# Altium schematic symbol library RHD2000.SCHLIB: 16 symbols
Pins are listed as number, name and electrical type; pins without a type are passive.

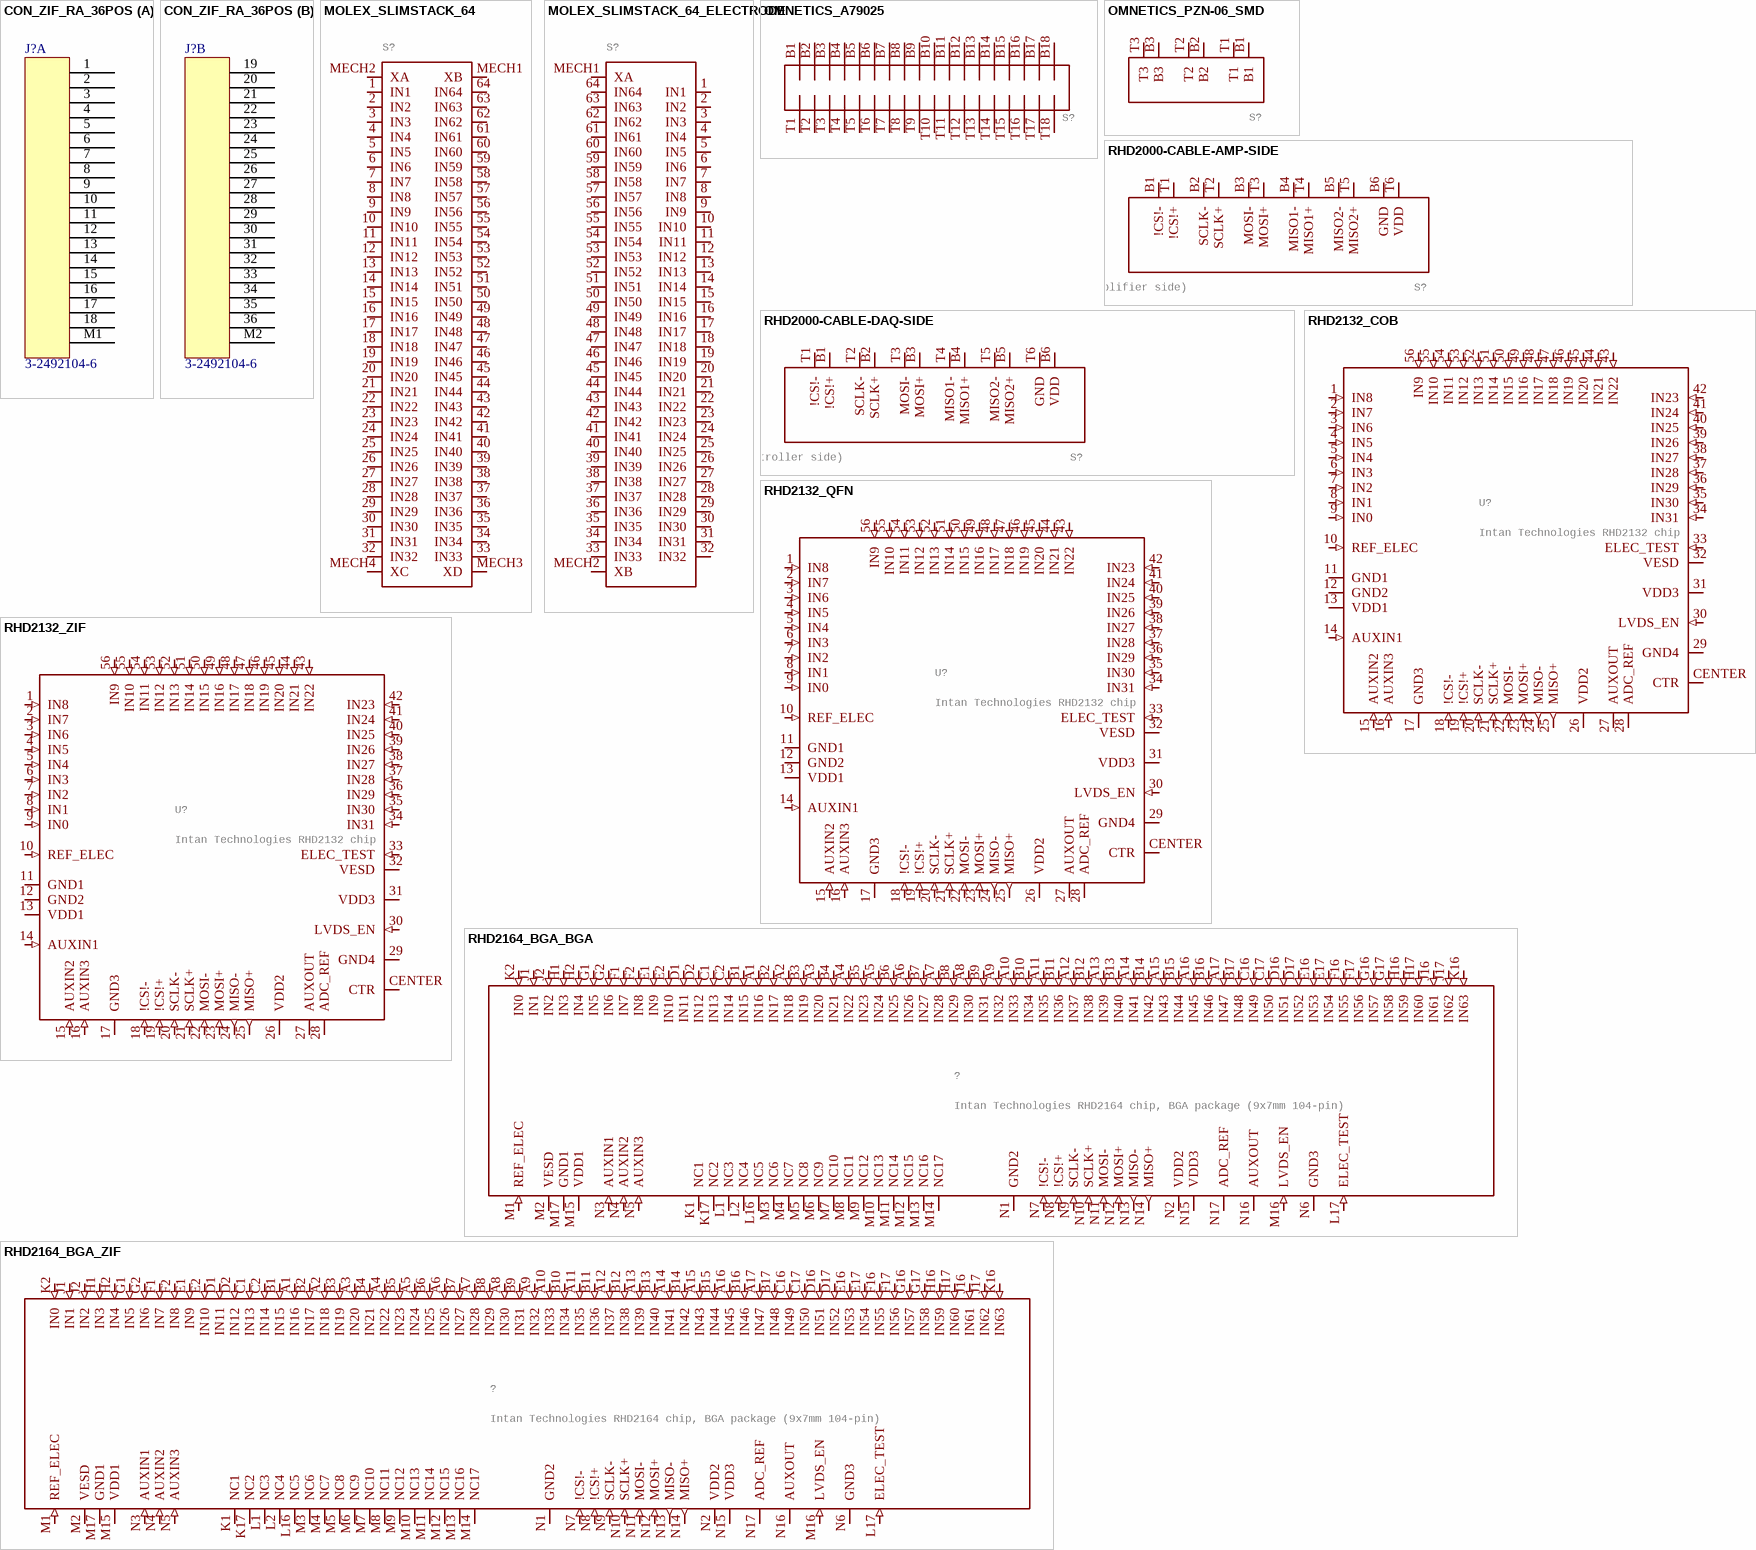
[diagram p0: symbols CON_ZIF_RA_36POS to RHD2164_BGA_ZIF]

## CON_ZIF_RA_36POS
designator J?, comment 3-2492104-6
36 Position FPC Connector Contacts, Bottom 0.020" (0.50mm) Surface Mount, Right Angle; GRAMS Lib Spec: 2.7
footprint CON_ZIF_RA_36POS (3-2492104-6 / 36 Position FPC Connector Contacts, Bottom 0.020" (0.50mm) Surface Mount, Right Angle)
part A pins: 1, 2, 3, 4, 5, 6, 7, 8, 9, 10, 11, 12, 13, 14, 15, 16, 17, 18, M1
part B pins: 19, 20, 21, 22, 23, 24, 25, 26, 27, 28, 29, 30, 31, 32, 33, 34, 35, 36, M2

## MOLEX_SLIMSTACK_64
designator S?, comment Molex 64-pin SlimStack connector (DigiKey WM24076-ND)  (value not drawn)
GateName_1: A; SymbolName_1: MOLEX_SLIMSTACK_64; LibraryName: RHD2000; DeviceSetName: MOLEX_SLIMSTACK_64; Package: MOLEX_SLIMSTACK_64
footprint MOLEX_SLIMSTACK_64
pins: 1 IN1 (io), 2 IN2 (io), 3 IN3 (io), 4 IN4 (io), 5 IN5 (io), 6 IN6 (io), 7 IN7 (io), 8 IN8 (io), 9 IN9 (io), 10 IN10 (io), 11 IN11 (io), 12 IN12 (io), 13 IN13 (io), 14 IN14 (io), 15 IN15 (io), 16 IN16 (io), 17 IN17 (io), 18 IN18 (io), 19 IN19 (io), 20 IN20 (io), 21 IN21 (io), 22 IN22 (io), 23 IN23 (io), 24 IN24 (io), 25 IN25 (io), 26 IN26 (io), 27 IN27 (io), 28 IN28 (io), 29 IN29 (io), 30 IN30 (io), 31 IN31 (io), 32 IN32 (io), 33 IN33 (io), 34 IN34 (io), 35 IN35 (io), 36 IN36 (io), 37 IN37 (io), 38 IN38 (io), 39 IN39 (io), 40 IN40 (io), 41 IN41 (io), 42 IN42 (io), 43 IN43 (io), 44 IN44 (io), 45 IN45 (io), 46 IN46 (io), 47 IN47 (io), 48 IN48 (io), 49 IN49 (io), 50 IN50 (io), 51 IN51 (io), 52 IN52 (io), 53 IN53 (io), 54 IN54 (io), 55 IN55 (io), 56 IN56 (io), 57 IN57 (io), 58 IN58 (io), 59 IN59 (io), 60 IN60 (io), 61 IN61 (io), 62 IN62 (io), 63 IN63 (io), 64 IN64 (io), MECH1 XB, MECH2 XA, MECH3 XD, MECH4 XC

## MOLEX_SLIMSTACK_64_ELECTRODE
designator S?, comment Molex 64-pin SlimStack connector (electrode side) (DigiKey WM24084-ND)  (value not drawn)
GateName_1: A; SymbolName_1: MOLEX_SLIMSTACK_64_ELECTRODE; LibraryName: RHD2000; DeviceSetName: MOLEX_SLIMSTACK_64_ELECTRODE; Package: MOLEX_SLIMSTACK_64_ELECTRODE
footprint MOLEX_SLIMSTACK_64_ELECTRODE
pins: 1 IN1 (io), 2 IN2 (io), 3 IN3 (io), 4 IN4 (io), 5 IN5 (io), 6 IN6 (io), 7 IN7 (io), 8 IN8 (io), 9 IN9 (io), 10 IN10 (io), 11 IN11 (io), 12 IN12 (io), 13 IN13 (io), 14 IN14 (io), 15 IN15 (io), 16 IN16 (io), 17 IN17 (io), 18 IN18 (io), 19 IN19 (io), 20 IN20 (io), 21 IN21 (io), 22 IN22 (io), 23 IN23 (io), 24 IN24 (io), 25 IN25 (io), 26 IN26 (io), 27 IN27 (io), 28 IN28 (io), 29 IN29 (io), 30 IN30 (io), 31 IN31 (io), 32 IN32 (io), 33 IN33 (io), 34 IN34 (io), 35 IN35 (io), 36 IN36 (io), 37 IN37 (io), 38 IN38 (io), 39 IN39 (io), 40 IN40 (io), 41 IN41 (io), 42 IN42 (io), 43 IN43 (io), 44 IN44 (io), 45 IN45 (io), 46 IN46 (io), 47 IN47 (io), 48 IN48 (io), 49 IN49 (io), 50 IN50 (io), 51 IN51 (io), 52 IN52 (io), 53 IN53 (io), 54 IN54 (io), 55 IN55 (io), 56 IN56 (io), 57 IN57 (io), 58 IN58 (io), 59 IN59 (io), 60 IN60 (io), 61 IN61 (io), 62 IN62 (io), 63 IN63 (io), 64 IN64 (io), MECH1 XA, MECH2 XB

## OMNETICS_A79025
designator S?, comment Omnetics A79025 36-pin connector  (value not drawn)
GateName_1: A; SymbolName_1: OMNETICS_A79025; LibraryName: RHD2000; DeviceSetName: OMNETICS_A79025; Package: OMNETICS_A79025
footprint OMNETICS_A79025
pins: B1, B2, B3, B4, B5, B6, B7, B8, B9, B10, B11, B12, B13, B14, B15, B16, B17, B18, T1, T2, T3, T4, T5, T6, T7, T8, T9, T10, T11, T12, T13, T14, T15, T16, T17, T18

## OMNETICS_PZN-06_SMD
designator S?
GateName_1: A; SymbolName_1: OMNETICS_PZN-06; DeviceName: _SMD; LibraryName: RHD2000; DeviceSetName: OMNETICS_PZN-06; Package: OMNETICS_PZN-06-AA
footprint OMNETICS_PZN-06-AA
pins: B1 (io), B2 (io), B3 (io), T1 (io), T2 (io), T3 (io)

## RHD2000-CABLE-AMP-SIDE
designator S?, comment Omnetics A79623 PZN-12-AA connector for SPI interface (amplifier side)
GateName_1: A; SymbolName_1: RHD2000-CABLE; DeviceSetName: RHD2000-CABLE-AMP-SIDE; LibraryName: RHD2000; Package: OMNETICS_PZN-12-AA
footprint OMNETICS_PZN-12-AA
pins: B1 !CS!- (io), B2 SCLK- (io), B3 MOSI- (io), B4 MISO1- (io), B5 MISO2- (io), B6 GND (power), T1 !CS!+ (io), T2 SCLK+ (io), T3 MOSI+ (io), T4 MISO1+ (io), T5 MISO2+ (io), T6 VDD (io)

## RHD2000-CABLE-DAQ-SIDE
designator S?, comment Omnetics A79623 PZN-12-AA connector for SPI interface (controller side)
GateName_1: A; SymbolName_1: RHD2000-CABLE; DeviceSetName: RHD2000-CABLE-DAQ-SIDE; LibraryName: RHD2000; Package: OMNETICS_PZN-12-AA
footprint OMNETICS_PZN-12-AA
pins: B1 !CS!+ (io), B2 SCLK+ (io), B3 MOSI+ (io), B4 MISO1+ (io), B5 MISO2+ (io), B6 VDD (io), T1 !CS!- (io), T2 SCLK- (io), T3 MOSI- (io), T4 MISO1- (io), T5 MISO2- (io), T6 GND (power)

## RHD2132_COB
designator U?, comment Intan Technologies RHD2132 chip
GateName_1: A; DeviceName: _COB; SymbolName_1: RHD2132; LibraryName: RHD2000; DeviceSetName: RHD2132; Package: RHD2000_56PIN_COB
footprint RHD2000_56PIN_COB
pins: 1 IN8 (in), 2 IN7 (in), 3 IN6 (in), 4 IN5 (in), 5 IN4 (in), 6 IN3 (in), 7 IN2 (in), 8 IN1 (in), 9 IN0 (in), 10 REF_ELEC (in), 11 GND1 (power), 12 GND2 (power), 13 VDD1 (power), 14 AUXIN1 (in), 15 AUXIN2 (in), 16 AUXIN3 (in), 17 GND3 (power), 18 !CS!- (in), 19 !CS!+ (in), 20 SCLK- (in), 21 SCLK+ (in), 22 MOSI- (in), 23 MOSI+ (in), 24 MISO- (out), 25 MISO+ (out), 26 VDD2 (power), 27 AUXOUT (hiz), 28 ADC_REF, 29 GND4 (power), 30 LVDS_EN (in), 31 VDD3 (power), 32 VESD (power), 33 ELEC_TEST (in), 34 IN31 (in), 35 IN30 (in), 36 IN29 (in), 37 IN28 (in), 38 IN27 (in), 39 IN26 (in), 40 IN25 (in), 41 IN24 (in), 42 IN23 (in), 43 IN22 (in), 44 IN21 (in), 45 IN20 (in), 46 IN19 (in), 47 IN18 (in), 48 IN17 (in), 49 IN16 (in), 50 IN15 (in), 51 IN14 (in), 52 IN13 (in), 53 IN12 (in), 54 IN11 (in), 55 IN10 (in), 56 IN9 (in), CENTER CTR (power)

## RHD2132_QFN
designator U?, comment Intan Technologies RHD2132 chip
GateName_1: A; DeviceName: _QFN; SymbolName_1: RHD2132; LibraryName: RHD2000; DeviceSetName: RHD2132; Package: QFN56_8_X_8_LARGE
footprint QFN56_8_X_8_LARGE
pins: 1 IN8 (in), 2 IN7 (in), 3 IN6 (in), 4 IN5 (in), 5 IN4 (in), 6 IN3 (in), 7 IN2 (in), 8 IN1 (in), 9 IN0 (in), 10 REF_ELEC (in), 11 GND1 (power), 12 GND2 (power), 13 VDD1 (power), 14 AUXIN1 (in), 15 AUXIN2 (in), 16 AUXIN3 (in), 17 GND3 (power), 18 !CS!- (in), 19 !CS!+ (in), 20 SCLK- (in), 21 SCLK+ (in), 22 MOSI- (in), 23 MOSI+ (in), 24 MISO- (out), 25 MISO+ (out), 26 VDD2 (power), 27 AUXOUT (hiz), 28 ADC_REF, 29 GND4 (power), 30 LVDS_EN (in), 31 VDD3 (power), 32 VESD (power), 33 ELEC_TEST (in), 34 IN31 (in), 35 IN30 (in), 36 IN29 (in), 37 IN28 (in), 38 IN27 (in), 39 IN26 (in), 40 IN25 (in), 41 IN24 (in), 42 IN23 (in), 43 IN22 (in), 44 IN21 (in), 45 IN20 (in), 46 IN19 (in), 47 IN18 (in), 48 IN17 (in), 49 IN16 (in), 50 IN15 (in), 51 IN14 (in), 52 IN13 (in), 53 IN12 (in), 54 IN11 (in), 55 IN10 (in), 56 IN9 (in), CENTER CTR (power)

## RHD2132_ZIF
designator U?, comment Intan Technologies RHD2132 chip
GateName_1: A; DeviceName: _ZIF; SymbolName_1: RHD2132; LibraryName: RHD2000; DeviceSetName: RHD2132; Package: ZIF_QFN56_8_X_8_MLF00056A1
footprint ZIF_QFN56_8_X_8_MLF00056A1
pins: 1 IN8 (in), 2 IN7 (in), 3 IN6 (in), 4 IN5 (in), 5 IN4 (in), 6 IN3 (in), 7 IN2 (in), 8 IN1 (in), 9 IN0 (in), 10 REF_ELEC (in), 11 GND1 (power), 12 GND2 (power), 13 VDD1 (power), 14 AUXIN1 (in), 15 AUXIN2 (in), 16 AUXIN3 (in), 17 GND3 (power), 18 !CS!- (in), 19 !CS!+ (in), 20 SCLK- (in), 21 SCLK+ (in), 22 MOSI- (in), 23 MOSI+ (in), 24 MISO- (out), 25 MISO+ (out), 26 VDD2 (power), 27 AUXOUT (hiz), 28 ADC_REF, 29 GND4 (power), 30 LVDS_EN (in), 31 VDD3 (power), 32 VESD (power), 33 ELEC_TEST (in), 34 IN31 (in), 35 IN30 (in), 36 IN29 (in), 37 IN28 (in), 38 IN27 (in), 39 IN26 (in), 40 IN25 (in), 41 IN24 (in), 42 IN23 (in), 43 IN22 (in), 44 IN21 (in), 45 IN20 (in), 46 IN19 (in), 47 IN18 (in), 48 IN17 (in), 49 IN16 (in), 50 IN15 (in), 51 IN14 (in), 52 IN13 (in), 53 IN12 (in), 54 IN11 (in), 55 IN10 (in), 56 IN9 (in), CENTER CTR (power)

## RHD2164_BGA_BGA
designator ?, comment Intan Technologies RHD2164 chip, BGA package (9x7mm 104-pin)
GateName_1: A; SymbolName_1: RHD2164_BGA; DeviceName: _BGA; LibraryName: RHD2000; DeviceSetName: RHD2164_BGA; Package: BGA104_9X7
footprint RHD2164_BGA
pins: A1 IN16 (in), A2 IN18 (in), A3 IN20 (in), A4 IN22 (in), A5 IN24 (in), A6 IN26 (in), A7 IN28 (in), A8 IN30 (in), A9 IN32 (in), A10 IN33 (in), A11 IN35 (in), A12 IN37 (in), A13 IN39 (in), A14 IN41 (in), A15 IN43 (in), A16 IN45 (in), A17 IN47 (in), B1 IN15 (in), B2 IN17 (in), B3 IN19 (in), B4 IN21 (in), B5 IN23 (in), B6 IN25 (in), B7 IN27 (in), B8 IN29 (in), B9 IN31 (in), B10 IN34 (in), B11 IN36 (in), B12 IN38 (in), B13 IN40 (in), B14 IN42 (in), B15 IN44 (in), B16 IN46 (in), B17 IN48 (in), C1 IN13 (in), C2 IN14 (in), C16 IN49 (in), C17 IN50 (in), D1 IN11 (in), D2 IN12 (in), D16 IN51 (in), D17 IN52 (in), E1 IN9 (in), E2 IN10 (in), E16 IN53 (in), E17 IN54 (in), F1 IN7 (in), F2 IN8 (in), F16 IN55 (in), F17 IN56 (in), G1 IN5 (in), G2 IN6 (in), G16 IN57 (in), G17 IN58 (in), H1 IN3 (in), H2 IN4 (in), H16 IN59 (in), H17 IN60 (in), J1 IN1 (in), J2 IN2 (in), J16 IN61 (in), J17 IN62 (in), K1 NC1, K2 IN0 (in), K16 IN63 (in), K17 NC2, L1 NC3, L2 NC4, L16 NC5, L17 ELEC_TEST (in), M1 REF_ELEC (in), M2 VESD (power), M3 NC6, M4 NC7, M5 NC8, M6 NC9, M7 NC10, M8 NC11, M9 NC12, M10 NC13, M11 NC14, M12 NC15, M13 NC16, M14 NC17, M15 VDD1 (power), M16 LVDS_EN (in), M17 GND1 (power), N1 GND2 (power), N2 VDD2 (power), N3 AUXIN1 (in), N4 AUXIN2 (in), N5 AUXIN3 (in), N6 GND3 (power), N7 !CS!- (in), N8 !CS!+ (in), N9 SCLK- (in), N10 SCLK+ (in), N11 MOSI- (in), N12 MOSI+ (in), N13 MISO- (out), N14 MISO+ (out), N15 VDD3 (power), N16 AUXOUT (hiz), N17 ADC_REF

## RHD2164_BGA_ZIF
designator ?, comment Intan Technologies RHD2164 chip, BGA package (9x7mm 104-pin)
GateName_1: A; SymbolName_1: RHD2164_BGA; DeviceName: _ZIF; LibraryName: RHD2000; DeviceSetName: RHD2164_BGA; Package: BGA104_9X7_ZIF
footprint BGA104_9X7_ZIF
pins: A1 IN16 (in), A2 IN18 (in), A3 IN20 (in), A4 IN22 (in), A5 IN24 (in), A6 IN26 (in), A7 IN28 (in), A8 IN30 (in), A9 IN32 (in), A10 IN33 (in), A11 IN35 (in), A12 IN37 (in), A13 IN39 (in), A14 IN41 (in), A15 IN43 (in), A16 IN45 (in), A17 IN47 (in), B1 IN15 (in), B2 IN17 (in), B3 IN19 (in), B4 IN21 (in), B5 IN23 (in), B6 IN25 (in), B7 IN27 (in), B8 IN29 (in), B9 IN31 (in), B10 IN34 (in), B11 IN36 (in), B12 IN38 (in), B13 IN40 (in), B14 IN42 (in), B15 IN44 (in), B16 IN46 (in), B17 IN48 (in), C1 IN13 (in), C2 IN14 (in), C16 IN49 (in), C17 IN50 (in), D1 IN11 (in), D2 IN12 (in), D16 IN51 (in), D17 IN52 (in), E1 IN9 (in), E2 IN10 (in), E16 IN53 (in), E17 IN54 (in), F1 IN7 (in), F2 IN8 (in), F16 IN55 (in), F17 IN56 (in), G1 IN5 (in), G2 IN6 (in), G16 IN57 (in), G17 IN58 (in), H1 IN3 (in), H2 IN4 (in), H16 IN59 (in), H17 IN60 (in), J1 IN1 (in), J2 IN2 (in), J16 IN61 (in), J17 IN62 (in), K1 NC1, K2 IN0 (in), K16 IN63 (in), K17 NC2, L1 NC3, L2 NC4, L16 NC5, L17 ELEC_TEST (in), M1 REF_ELEC (in), M2 VESD (power), M3 NC6, M4 NC7, M5 NC8, M6 NC9, M7 NC10, M8 NC11, M9 NC12, M10 NC13, M11 NC14, M12 NC15, M13 NC16, M14 NC17, M15 VDD1 (power), M16 LVDS_EN (in), M17 GND1 (power), N1 GND2 (power), N2 VDD2 (power), N3 AUXIN1 (in), N4 AUXIN2 (in), N5 AUXIN3 (in), N6 GND3 (power), N7 !CS!- (in), N8 !CS!+ (in), N9 SCLK- (in), N10 SCLK+ (in), N11 MOSI- (in), N12 MOSI+ (in), N13 MISO- (out), N14 MISO+ (out), N15 VDD3 (power), N16 AUXOUT (hiz), N17 ADC_REF

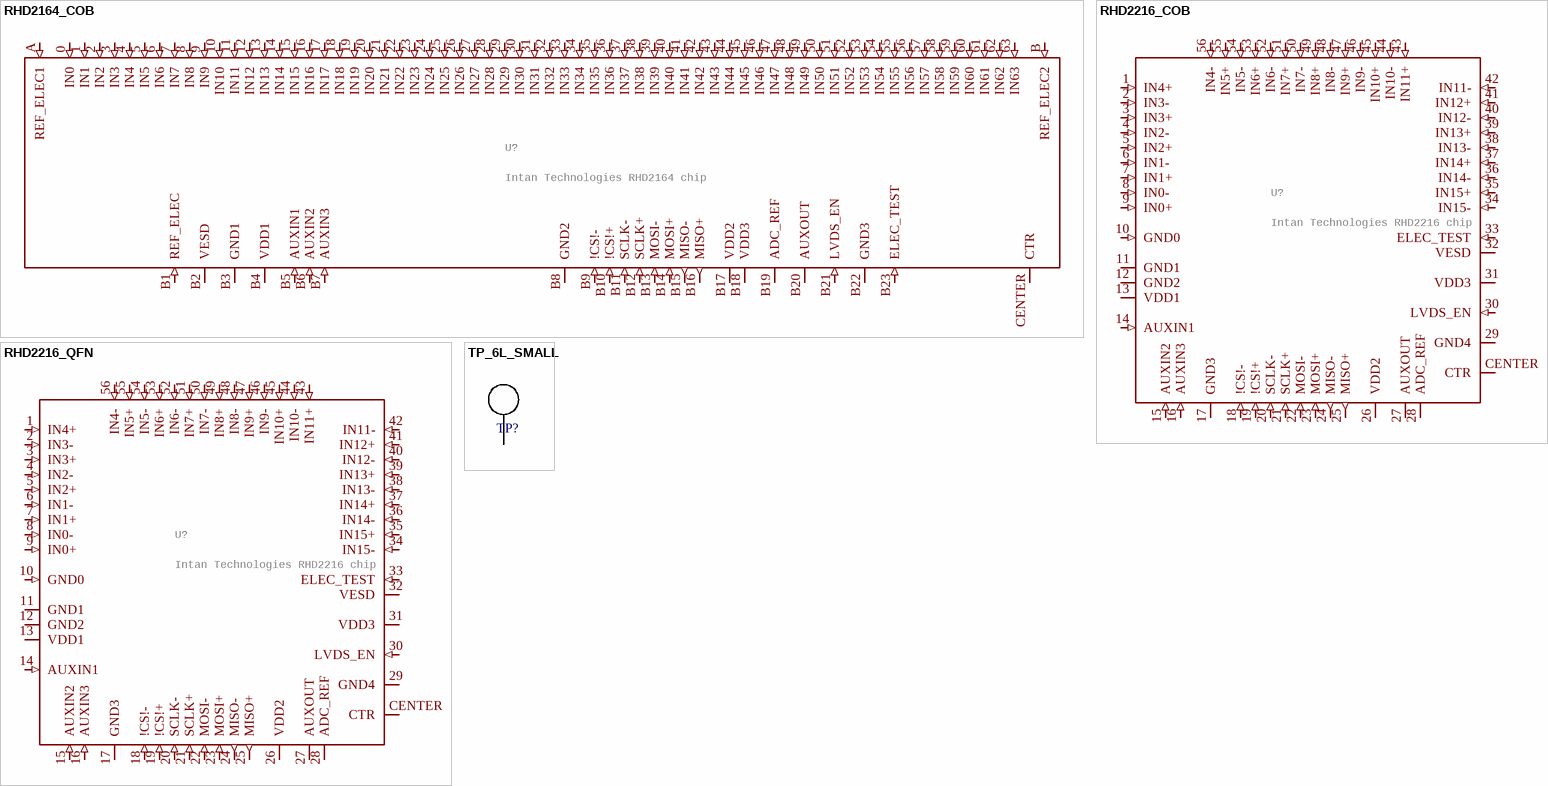
[diagram p1: symbols RHD2164_COB to TP_6L_SMALL]

## RHD2164_COB
designator U?, comment Intan Technologies RHD2164 chip
GateName_1: A; DeviceName: _COB; SymbolName_1: RHD2164; LibraryName: RHD2000; DeviceSetName: RHD2164; Package: RHD2164_COB
footprint RHD2164_COB
pins: 0 IN0 (in), 1 IN1 (in), 2 IN2 (in), 3 IN3 (in), 4 IN4 (in), 5 IN5 (in), 6 IN6 (in), 7 IN7 (in), 8 IN8 (in), 9 IN9 (in), 10 IN10 (in), 11 IN11 (in), 12 IN12 (in), 13 IN13 (in), 14 IN14 (in), 15 IN15 (in), 16 IN16 (in), 17 IN17 (in), 18 IN18 (in), 19 IN19 (in), 20 IN20 (in), 21 IN21 (in), 22 IN22 (in), 23 IN23 (in), 24 IN24 (in), 25 IN25 (in), 26 IN26 (in), 27 IN27 (in), 28 IN28 (in), 29 IN29 (in), 30 IN30 (in), 31 IN31 (in), 32 IN32 (in), 33 IN33 (in), 34 IN34 (in), 35 IN35 (in), 36 IN36 (in), 37 IN37 (in), 38 IN38 (in), 39 IN39 (in), 40 IN40 (in), 41 IN41 (in), 42 IN42 (in), 43 IN43 (in), 44 IN44 (in), 45 IN45 (in), 46 IN46 (in), 47 IN47 (in), 48 IN48 (in), 49 IN49 (in), 50 IN50 (in), 51 IN51 (in), 52 IN52 (in), 53 IN53 (in), 54 IN54 (in), 55 IN55 (in), 56 IN56 (in), 57 IN57 (in), 58 IN58 (in), 59 IN59 (in), 60 IN60 (in), 61 IN61 (in), 62 IN62 (in), 63 IN63 (in), A REF_ELEC1 (in), B REF_ELEC2 (in), B1 REF_ELEC (in), B2 VESD (power), B3 GND1 (power), B4 VDD1 (power), B5 AUXIN1 (in), B6 AUXIN2 (in), B7 AUXIN3 (in), B8 GND2 (power), B9 !CS!- (in), B10 !CS!+ (in), B11 SCLK- (in), B12 SCLK+ (in), B13 MOSI- (in), B14 MOSI+ (in), B15 MISO- (out), B16 MISO+ (out), B17 VDD2 (power), B18 VDD3 (power), B19 ADC_REF, B20 AUXOUT (hiz), B21 LVDS_EN (in), B22 GND3 (power), B23 ELEC_TEST (in), CENTER CTR (power)

## RHD2216_COB
designator U?, comment Intan Technologies RHD2216 chip
GateName_1: A; DeviceName: _COB; SymbolName_1: RHD2216; LibraryName: RHD2000; DeviceSetName: RHD2216; Package: RHD2000_56PIN_COB
footprint RHD2000_56PIN_COB
pins: 1 IN4+ (in), 2 IN3- (in), 3 IN3+ (in), 4 IN2- (in), 5 IN2+ (in), 6 IN1- (in), 7 IN1+ (in), 8 IN0- (in), 9 IN0+ (in), 10 GND0 (in), 11 GND1 (power), 12 GND2 (power), 13 VDD1 (power), 14 AUXIN1 (in), 15 AUXIN2 (in), 16 AUXIN3 (in), 17 GND3 (power), 18 !CS!- (in), 19 !CS!+ (in), 20 SCLK- (in), 21 SCLK+ (in), 22 MOSI- (in), 23 MOSI+ (in), 24 MISO- (out), 25 MISO+ (out), 26 VDD2 (power), 27 AUXOUT (hiz), 28 ADC_REF, 29 GND4 (power), 30 LVDS_EN (in), 31 VDD3 (power), 32 VESD (power), 33 ELEC_TEST (in), 34 IN15- (in), 35 IN15+ (in), 36 IN14- (in), 37 IN14+ (in), 38 IN13- (in), 39 IN13+ (in), 40 IN12- (in), 41 IN12+ (in), 42 IN11- (in), 43 IN11+ (in), 44 IN10- (in), 45 IN10+ (in), 46 IN9- (in), 47 IN9+ (in), 48 IN8- (in), 49 IN8+ (in), 50 IN7- (in), 51 IN7+ (in), 52 IN6- (in), 53 IN6+ (in), 54 IN5- (in), 55 IN5+ (in), 56 IN4- (in), CENTER CTR (power)

## RHD2216_QFN
designator U?, comment Intan Technologies RHD2216 chip
GateName_1: A; DeviceName: _QFN; SymbolName_1: RHD2216; LibraryName: RHD2000; DeviceSetName: RHD2216; Package: QFN56_8_X_8_LARGE
footprint QFN56_8_X_8_LARGE
pins: 1 IN4+ (in), 2 IN3- (in), 3 IN3+ (in), 4 IN2- (in), 5 IN2+ (in), 6 IN1- (in), 7 IN1+ (in), 8 IN0- (in), 9 IN0+ (in), 10 GND0 (in), 11 GND1 (power), 12 GND2 (power), 13 VDD1 (power), 14 AUXIN1 (in), 15 AUXIN2 (in), 16 AUXIN3 (in), 17 GND3 (power), 18 !CS!- (in), 19 !CS!+ (in), 20 SCLK- (in), 21 SCLK+ (in), 22 MOSI- (in), 23 MOSI+ (in), 24 MISO- (out), 25 MISO+ (out), 26 VDD2 (power), 27 AUXOUT (hiz), 28 ADC_REF, 29 GND4 (power), 30 LVDS_EN (in), 31 VDD3 (power), 32 VESD (power), 33 ELEC_TEST (in), 34 IN15- (in), 35 IN15+ (in), 36 IN14- (in), 37 IN14+ (in), 38 IN13- (in), 39 IN13+ (in), 40 IN12- (in), 41 IN12+ (in), 42 IN11- (in), 43 IN11+ (in), 44 IN10- (in), 45 IN10+ (in), 46 IN9- (in), 47 IN9+ (in), 48 IN8- (in), 49 IN8+ (in), 50 IN7- (in), 51 IN7+ (in), 52 IN6- (in), 53 IN6+ (in), 54 IN5- (in), 55 IN5+ (in), 56 IN4- (in), CENTER CTR (power)

## TP_6L_SMALL
designator TP?  (value not drawn)
Small Test Point
pins: 1